# EAGLE library part WIFI-WIZFI21X (library Module)
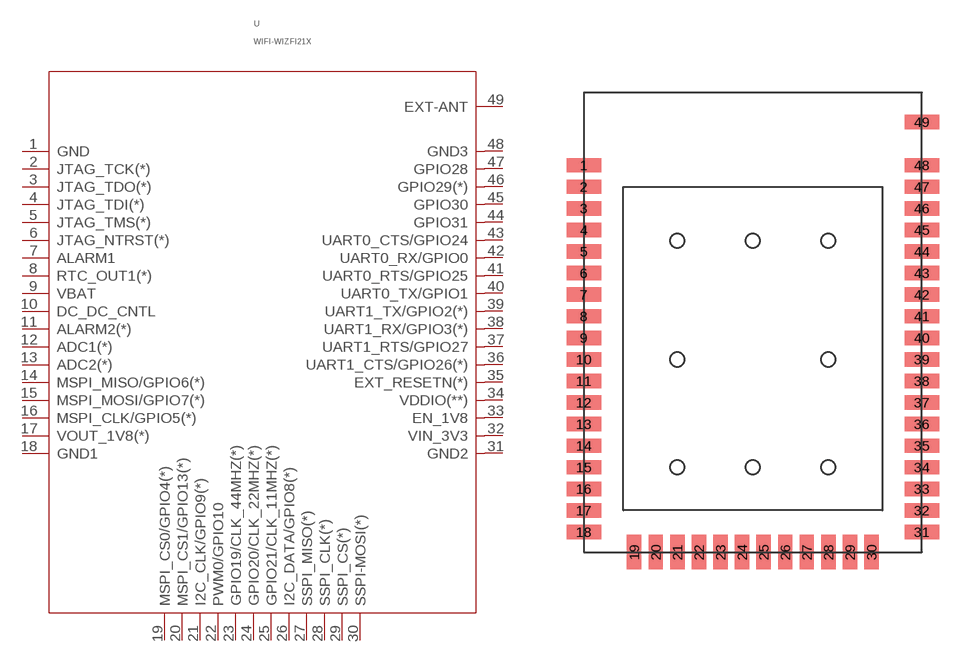
[diagram p15: symbol with the pads of 49P-SMD-23.5X32; footprint 49P-SMD-23.5X32]

Designator prefix U

## WIFI-WIZFI21XWIXFI210  [49P-SMD-23.5X32]
1  GND  sup
2  JTAG_TCK(*)  in
3  JTAG_TDO(*)  out
4  JTAG_TDI(*)  in
5  JTAG_TMS(*)  in
6  JTAG_NTRST(*)  in
7  ALARM1  in
8  RTC_OUT1(*)  out
9  VBAT  sup
10  DC_DC_CNTL  out
11  ALARM2(*)  in
12  ADC1(*)  in
13  ADC2(*)  in
14  MSPI_MISO/GPIO6(*)  in
15  MSPI_MOSI/GPIO7(*)  out
16  MSPI_CLK/GPIO5(*)  out
17  VOUT_1V8(*)  sup
18  GND1  sup
19  MSPI_CS0/GPIO4(*)  out
20  MSPI_CS1/GPIO13(*)  out
21  I2C_CLK/GPIO9(*)
22  PWM0/GPIO10  out
23  GPIO19/CLK_44MHZ(*)  in
24  GPIO20/CLK_22MHZ(*)  in
25  GPIO21/CLK_11MHZ(*)  in
26  I2C_DATA/GPIO8(*)
27  SSPI_MISO(*)  out
28  SSPI_CLK(*)  in
29  SSPI_CS(*)  in
30  SSPI-MOSI(*)  in
31  GND2  sup
32  VIN_3V3  sup
33  EN_1V8  in
34  VDDIO(**)  sup
35  EXT_RESETN(*)
36  UART1_CTS/GPIO26(*)  in
37  UART1_RTS/GPIO27  out
38  UART1_RX/GPIO3(*)  in
39  UART1_TX/GPIO2(*)  out
40  UART0_TX/GPIO1  out
41  UART0_RTS/GPIO25  out
42  UART0_RX/GPIO0  in
43  UART0_CTS/GPIO24  in
44  GPIO31
45  GPIO30
46  GPIO29(*)
47  GPIO28
48  GND3  sup
49  EXT-ANT

## Footprint 49P-SMD-23.5X32 (pad centres in mm)
smd 2.4 x 1: 1 -11.75,13.5; 2 -11.75,12; 3 -11.75,10.5; 4 -11.75,9; 5 -11.75,7.5; 6 -11.75,6; 7 -11.75,4.5; 8 -11.75,3; 9 -11.75,1.5; 10 -11.75,0; 11 -11.75,-1.5; 12 -11.75,-3; 13 -11.75,-4.5; 14 -11.75,-6; 15 -11.75,-7.5; 16 -11.75,-9; 17 -11.75,-10.5; 18 -11.75,-12; 31 11.75,-12; 32 11.75,-10.5; 33 11.75,-9; 34 11.75,-7.5; 35 11.75,-6; 36 11.75,-4.5; 37 11.75,-3; 38 11.75,-1.5; 39 11.75,0; 40 11.75,1.5; 41 11.75,3; 42 11.75,4.5; 43 11.75,6; 44 11.75,7.5; 45 11.75,9; 46 11.75,10.5; 47 11.75,12; 48 11.75,13.5; 49 11.75,16.5
smd 1 x 2.4: 19 -8.25,-13.4; 20 -6.75,-13.4; 21 -5.25,-13.4; 22 -3.75,-13.4; 23 -2.25,-13.4; 24 -0.75,-13.4; 25 0.75,-13.4; 26 2.25,-13.4; 27 3.75,-13.4; 28 5.25,-13.4; 29 6.75,-13.4; 30 8.25,-13.4